# EAGLE library part LZR185 (library led_WS)
LED BLOCK 5 LEDs, Siemens
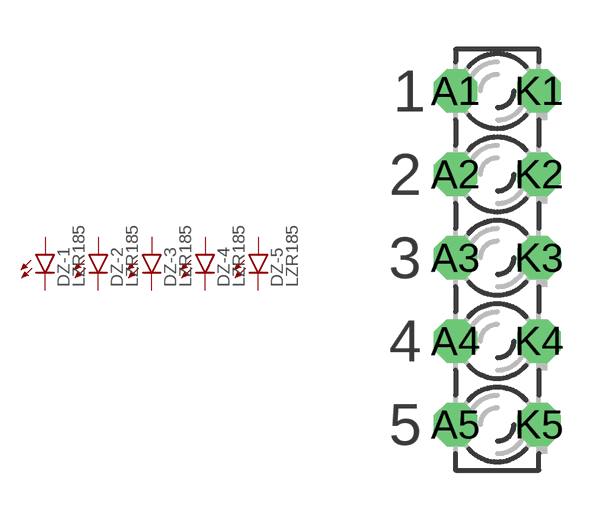
[diagram p11: symbol with the pads of LZR185; footprint LZR185]

Designator prefix DZ; gates -1=LED -2=LED -3=LED -4=LED -5=LED

## LZR185  [LZR185]
A1  -1:A  pas
A2  -2:A  pas
A3  -3:A  pas
A4  -4:A  pas
A5  -5:A  pas
K1  -1:C  pas
K2  -2:C  pas
K3  -3:C  pas
K4  -4:C  pas
K5  -5:C  pas

## Footprint LZR185 (pad centres in mm)
LED BLOCK 5 LEDs, Siemens
drill 0.813 octagon: A1 -1.27,5.08; A2 -1.27,2.54; A3 -1.27,0; A4 -1.27,-2.54; A5 -1.27,-5.08; K1 1.27,5.08; K2 1.27,2.54; K3 1.27,0; K4 1.27,-2.54; K5 1.27,-5.08